# Altium schematic symbol library CD4053.SchLib: 1 symbol
Pins are listed as number, name and electrical type; pins without a type are passive.

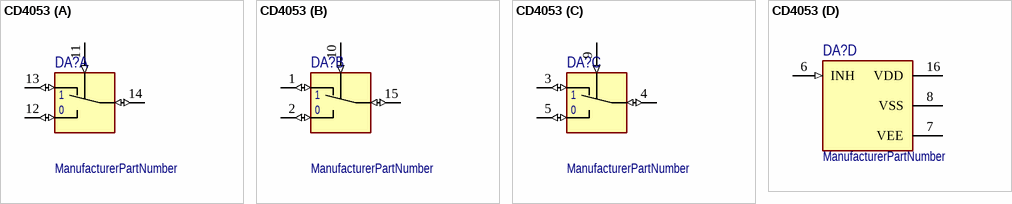
[diagram p0: symbol CD4053]

## CD4053
designator DA?  (value not drawn)
ManufacturerPartNumber: ManufacturerPartNumber
part A pins: 11 (in), 12 (io), 13 (io), 14 (io)
part B pins: 1 (io), 2 (io), 10 (in), 15 (io)
part C pins: 3 (io), 4 (io), 5 (io), 9 (in)
part D pins: 6 INH (in), 7 VEE, 8 VSS (power), 16 VDD (power)
part A text: 0
part B text: 0
part C text: 0